# EAGLE library part AY-3-8913 (library ym2149f-AY)
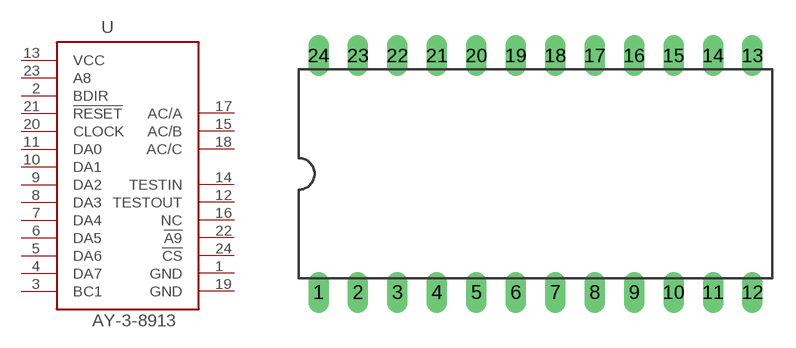
[diagram p3: symbol with the pads of DIL24; footprint DIL24]

Designator prefix -

## AY-3-8913  [DIL24]
1  GND
2  BDIR
3  BC1
4  DA7
5  DA6
6  DA5
7  DA4
8  DA3
9  DA2
10  DA1
11  DA0
12  TESTOUT
13  VCC
14  TESTIN
15  AC/B
16  NC
17  AC/A
18  AC/C
19  GND
20  CLOCK
21  !RESET
22  !A9
23  A8
24  !CS

## Footprint DIL24 (pad centres in mm)
Dual In Line Package
drill 0.813 long: 1 -13.97,-7.62; 2 -11.43,-7.62; 3 -8.89,-7.62; 4 -6.35,-7.62; 5 -3.81,-7.62; 6 -1.27,-7.62; 7 1.27,-7.62; 8 3.81,-7.62; 9 6.35,-7.62; 10 8.89,-7.62; 11 11.43,-7.62; 12 13.97,-7.62; 13 13.97,7.62; 14 11.43,7.62; 15 8.89,7.62; 16 6.35,7.62; 17 3.81,7.62; 18 1.27,7.62; 19 -1.27,7.62; 20 -3.81,7.62; 21 -6.35,7.62; 22 -8.89,7.62; 23 -11.43,7.62; 24 -13.97,7.62